# Altium schematic symbol library Magnetic Sensor.SchLib: 3 symbols
Pins are listed as number, name and electrical type; pins without a type are passive.

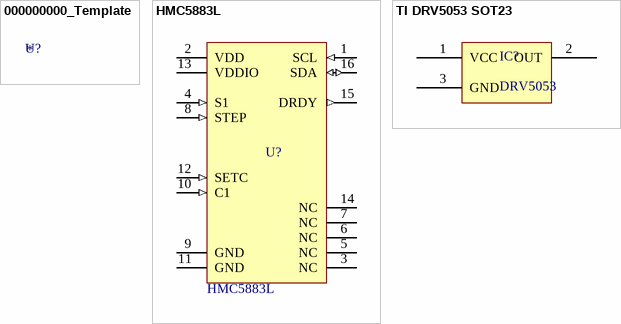
[diagram p0: symbols 000000000_Template to TI DRV5053 SOT23]

## 000000000_Template
designator U?
Satıcı: Digikey; Output Type: I²C; Voltage - Supply: 2.16 V ~ 3.6 V; Depo Kodu: *; Paket: *; Satın Alma Linki: *; Datasheet: *; Manufacturer Code: *; Suplier Code: *; Manufacturer: *; Series: *; Type: *; Technology: *; Axis: *; Sensing Range: ±*; Current - Supply (Max): *; Current - Output (Max): *; Resolution: *; Bandwidth: *; Operating Temperature: -30°C ~ 85°C (TA); Features: *; Value: *

## HMC5883L
designator U?
The Honeywell HMC5883L is a surface-mount, multi-chip module designed for  low-field magnetic sensing with a digital interface for applications such as lowcost  compassing and magnetometry.; Manufacturer: Honeywell Microelectronics & Precision Sensors; Satıcı: Digikey; Axis: X, Y, Z; Output Type: I²C; Sensing Range: ±0.8mT; Voltage - Supply: 2.16 V ~ 3.6 V; Current - Supply (Max): 100µA (Typ); Depo Kodu: *; Paket: *; Satın Alma Linki: *; Datasheet: https://media.digikey.com/pdf/Data%20Sheets/Honeywell%20PDFs/HMC5883L.pdf; Manufacturer Code: *; Suplier Code: *; Series: -; Type: Compass/Magnetometer; Technology: Magnetoresistive; Current - Output (Max): -; Resolution: -; Bandwidth: -; Operating Temperature: -30°C ~ 85°C (TA); Features: -; Value: HMC5883L
footprint HMC5883L-LCC-16 3x3mm
pins: 1 SCL (in), 2 VDD (power), 3 NC, 4 S1 (in), 5 NC, 6 NC, 7 NC, 8 STEP (in), 9 GND (power), 10 C1 (in), 11 GND (power), 12 SETC (in), 13 VDDIO (power), 14 NC, 15 DRDY (out), 16 SDA (io)

## TI DRV5053 SOT23
designator IC?, comment DRV5053
pins: 1 VCC, 2 OUT, 3 GND